# EAGLE library part X9C* (library xicor)
Xicor Digitally controlled Potentiometer (EEPOT) by Xicor (now at www.intersil.com)
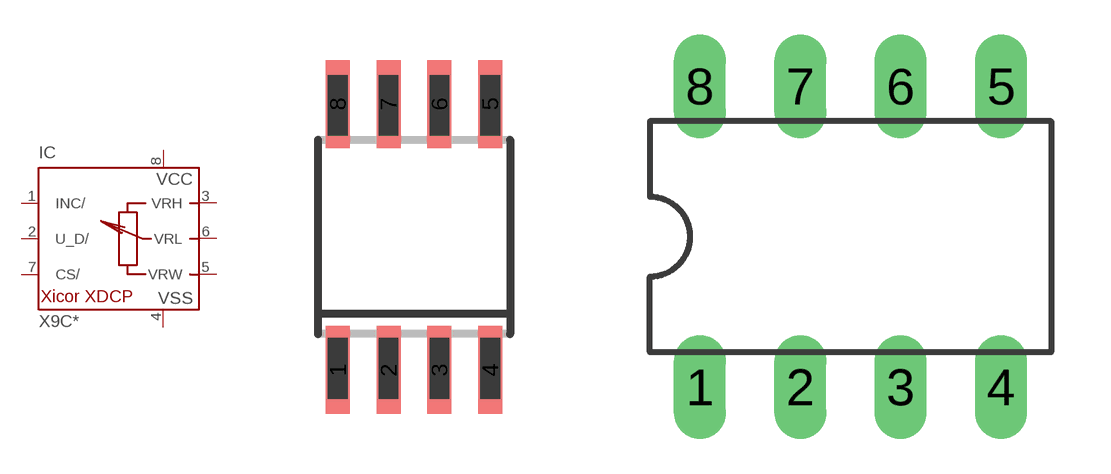
[diagram p0: symbol with the pads of SO-08M; footprints SO-08M, DIL08]

Designator prefix IC

## X9C01SM, X9C01ASM, X9C01CSM, X9C02SM, X9C02ASM, X9C02CSM, X9C04SM, X9C04ASM  [SO-08M]
1  INC/  in
2  U_D/  in
3  VRH  pas
4  VSS  pwr
5  VRW  pas
6  VRL  pas
7  CS/  in
8  VCC  pwr

## X9C  [DIL08]
Pads as for SO-08M

## Footprint SO-08M (pad centres in mm)
Small Outline Medium Plastic Gull Wing 207-mil body, package type SM
smd 0.6 x 2.2: 1 -1.905,-3.33; 2 -0.635,-3.33; 3 0.635,-3.33; 4 1.905,-3.33; 5 1.905,3.33; 6 0.635,3.33; 7 -0.635,3.33; 8 -1.905,3.33

## Footprint DIL08 (pad centres in mm)
Dual In Line Package
drill 0.813 long: 1 -3.81,-3.81; 2 -1.27,-3.81; 3 1.27,-3.81; 4 3.81,-3.81; 5 3.81,3.81; 6 1.27,3.81; 7 -1.27,3.81; 8 -3.81,3.81